# EAGLE library part IL300 (library 1A-meinLib)
IL300, Linear Optocoupler, High Gain stability, wideband, Siemens, / VISHAY
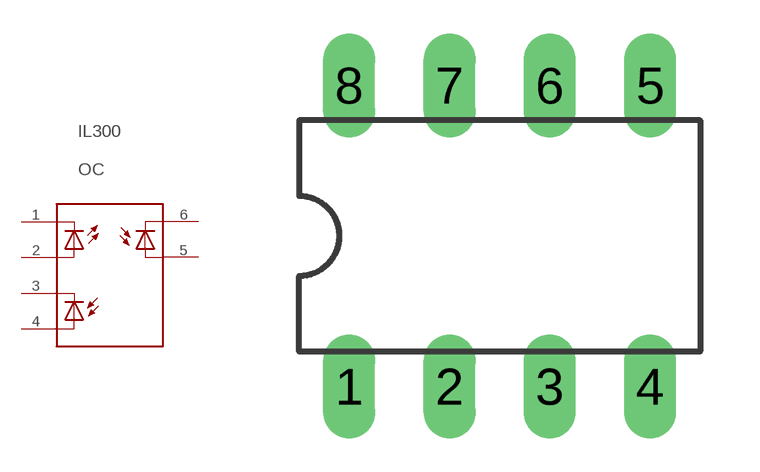
[diagram p107: symbol with the pads of DIL08; footprint DIL08]

Designator prefix OC

## IL300  [DIL08]
1  TR-K  pas
2  TR-A  pas
3  S-K  pas
4  S-A  pas
5  R-A  pas
6  R-K  pas

## Footprint DIL08 (pad centres in mm)
Dual In Line Package
drill 0.813 long: 1 -3.81,-3.81; 2 -1.27,-3.81; 3 1.27,-3.81; 4 3.81,-3.81; 5 3.81,3.81; 6 1.27,3.81; 7 -1.27,3.81; 8 -3.81,3.81